# Altium integrated library FRC1206F1005TS.IntLib: 1 symbol
Pins are listed as number, name and electrical type; pins without a type are passive.

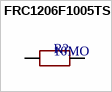
[diagram p0: symbol FRC1206F1005TS]

## FRC1206F1005TS
designator R?  value 10MO  (hidden comment: FRC1206F1005TS)
Chip Resistor - Surface Mount. -55C~+155C 10Mohm 200V 250mW Thick Film Resistor +/-1% +/-100ppm/C 1206 Chip Resistor - Surface Mount ROHS; Manufacturer: FOJAN; Component Type: Resistors; Design Item ID: FRC1206F1005TS; JLCPCB Part #: C2933576; Manufacturer Part Number: FRC1206F1005TS
footprint FRC1206F1005TS (R1206)
pins: 1, 2